# Altium schematic symbol library Diode.SchLib: 16 symbols
Pins are listed as number, name and electrical type; pins without a type are passive.

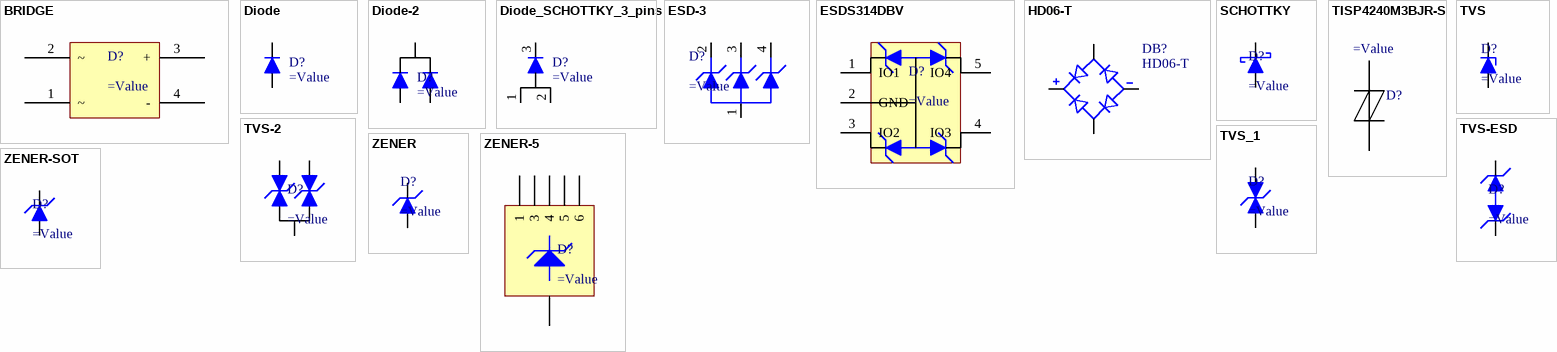
[diagram p0: symbols BRIDGE to ZENER-SOT]

## BRIDGE
designator D?
=Description
pins: 1 ~, 2 ~, 3 +, 4 -

## Diode
designator D?
=Description
pins: A, C K

## Diode-2
designator D?
=Description
pins: 1 A1, 2 A2, 3 K

## Diode_SCHOTTKY_3_pins
designator D?
=Description
pins: 1 A, 2 A, 3 K

## ESD-3
designator D?
=Description
pins: 1, 2, 3, 4

## ESDS314DBV
designator D?
=Description
pins: 1 IO1, 1, 1, 2 GND, 2, 2, 3 IO2, 4 IO3, 5 IO4

## HD06-T
designator DB?
BRIDGE RECT 1P 600V 800MA 4-DIP; MF: Pericom; Package: SMD-4 Pericom; Value: *; Price: None; MP: HD06-T; Availability: Unavailable; SnapEDA_Link: https://www.snapeda.com/parts/HD06-T/Pericom/view-part/2758517/?ref=snap
footprint DIOB_HD06-T
footprint HD06_T; pin to pad AC1>4 AC2>3 NEG>2 POS>1
pins: AC1, AC2, NEG, POS

## SCHOTTKY
designator D?
=Description
pins: A, C K

## TISP4240M3BJR-S
designator D?
=Description; Part Number: TISP4240M3BJR-S; Manufacturer: Bourns Inc; Voltage: 12V; ControlLevel: B; Type: SMD; Price: 0.3; PinCount: 2
footprint DO214AA
pins: 1, 2

## TVS
designator D?
=Description
pins: A, C K

## TVS-2
designator D?
=Description
pins: 1, 2, 3

## TVS-ESD
designator D?
=Description
pins: A 1, C 2

## TVS_1
designator D?
=Description
pins: 1, 2

## ZENER
designator D?
=Description
pins: A, C

## ZENER-5
designator D?
=Description
pins: 1, 2 GND, 3, 4, 5, 6

## ZENER-SOT
designator D?
=Description
pins: 1 A, 3 K